# Altium footprint library ngv-ext.PcbLib: 2 footprints
Each footprint in its own frame and in the unit in brackets; x right, y up, seen from the top. Pads: shape width x height; smd on the part's side, far side on the other; paste and mask are expansions set on the pad; w line width, h text height; cw(c..) or ccw(c..) is an arc to the next point about the centre after c.
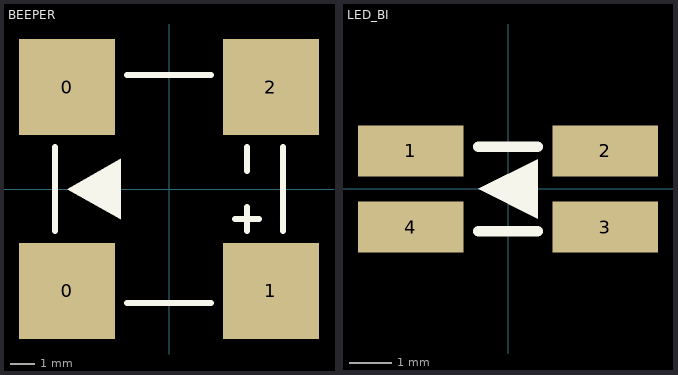
[diagram p0: the footprints below, top view; thin cyan lines are the x and y axes]

## BEEPER [mm]
pads (4):
  rect 4x4 smd: 0(-4.25,-4.25) 0(-4.25,4.25) 1(4.25,-4.25) 2(4.25,4.25)
Top Overlay:
  region: -4.25,0 -2,-1.25 -2,1.25
  lines w0.254: -4.75,-1.75 -4.75,1.75 ; -1.75,-4.75 1.75,-4.75 ; -1.75,4.75 1.75,4.75 ; 2.75,-1.25 3.75,-1.25 ; 3.25,-1.75 3.25,-0.75 ; 3.25,0.75 3.25,1.75 ; 4.75,-1.75 4.75,1.75

## LED_BI [mm]
pads (4):
  rect 2.5x1.2 smd: 1(-2.3,0.9) 2(2.3,0.9) 3(2.3,-0.9) 4(-2.3,-0.9)
Top Overlay:
  region: 0.7,0.7 0.7,-0.7 -0.7,0
  lines w0.254: -0.7,-1 0.7,-1 ; -0.7,1 0.7,1